# Altium footprint library F405 MCU1.PcbLib: 18 footprints (part 2 of 2)
Each footprint in its own frame and in the unit in brackets; x right, y up, seen from the top. Pads: shape width x height; smd on the part's side, far side on the other; paste and mask are expansions set on the pad; w line width, h text height; cw(c..) or ccw(c..) is an arc to the next point about the centre after c.
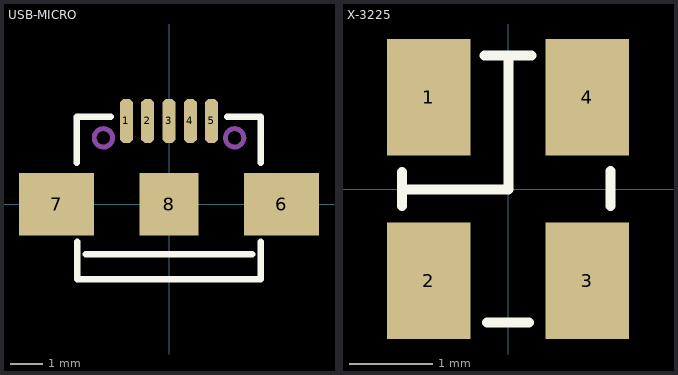
[diagram p1: the footprints below, top view; thin cyan lines are the x and y axes]

## USB-MICRO [mm]
pads (8):
  oct 0.4x1.35 smd: 1(-1.3,2.54) 2(-0.65,2.54) 3(0,2.54) 4(0.65,2.54) 5(1.3,2.54)
  rect 2.286x1.9 smd: 6(3.429,0) 7(-3.429,0)
  rect 1.8x1.9 smd: 8(0,0)
Top Overlay:
  lines w0.2: -2.807,1.27 -2.807,2.667 -1.778,2.667 ; -2.794,-1.143 -2.794,-2.286 2.794,-2.286 2.794,-1.143 ; -2.54,-1.524 2.54,-1.524 ; 1.778,2.667 2.794,2.667 2.794,1.27
Mechanical 1:
  circle w0.15: c2,2.023 r0.28
  circle w0.15: c-2,2.023 r0.28

## X-3225 [mm]
pads (4):
  rect 1x1.4 smd: 1(-0.95,1.1) 2(-0.95,-1.1) 3(0.95,-1.1) 4(0.95,1.1)
Top Overlay:
  lines w0.12: -1.27,-0.203 -1.27,0.203 ; -1.27,-0.008 0.008,-0.008 0.008,1.538 ; -0.279,1.6 0.279,1.6 ; -0.254,-1.6 0.254,-1.6 ; 1.232,-0.203 1.232,0.216
3D body: height 0.8, standoff 0, extent -1.25,-1.6 1.25,1.6